# Altium footprint library ESP-07 Module.PcbLib: 1 footprints
Each footprint in its own frame and in the unit in brackets; x right, y up, seen from the top. Pads: shape width x height; smd on the part's side, far side on the other; paste and mask are expansions set on the pad; w line width, h text height; cw(c..) or ccw(c..) is an arc to the next point about the centre after c.
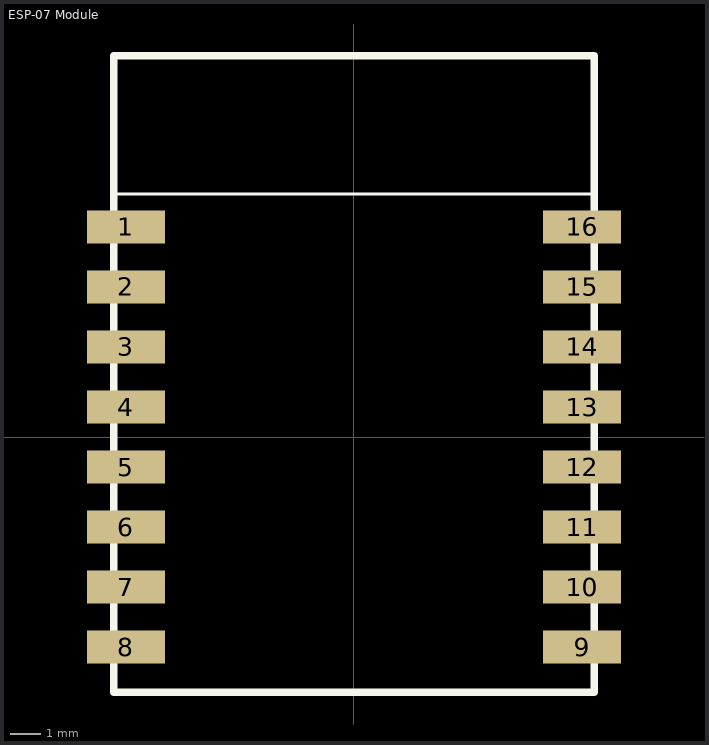
[diagram p0: the footprint, top view; thin cyan lines are the x and y axes]

## ESP-07 Module [mm]
pads (16):
  rect 2.6x1.1 smd: 1(-7.6,7) 2(-7.6,5) 3(-7.6,3) 4(-7.6,1) 5(-7.6,-1) 6(-7.6,-3) 7(-7.6,-5) 8(-7.6,-7) 9(7.6,-7) 10(7.6,-5) 11(7.6,-3) 12(7.6,-1) 13(7.6,1) 14(7.6,3) 15(7.6,5) 16(7.6,7)
Top Overlay:
  lines w0.1: -8,8.1 8,8.1
  lines w0.254: -8,-8.5 -8,12.7 8,12.7 8,-8.5 -8,-8.5